# EAGLE library part FT4232H (library RS-ftdi)
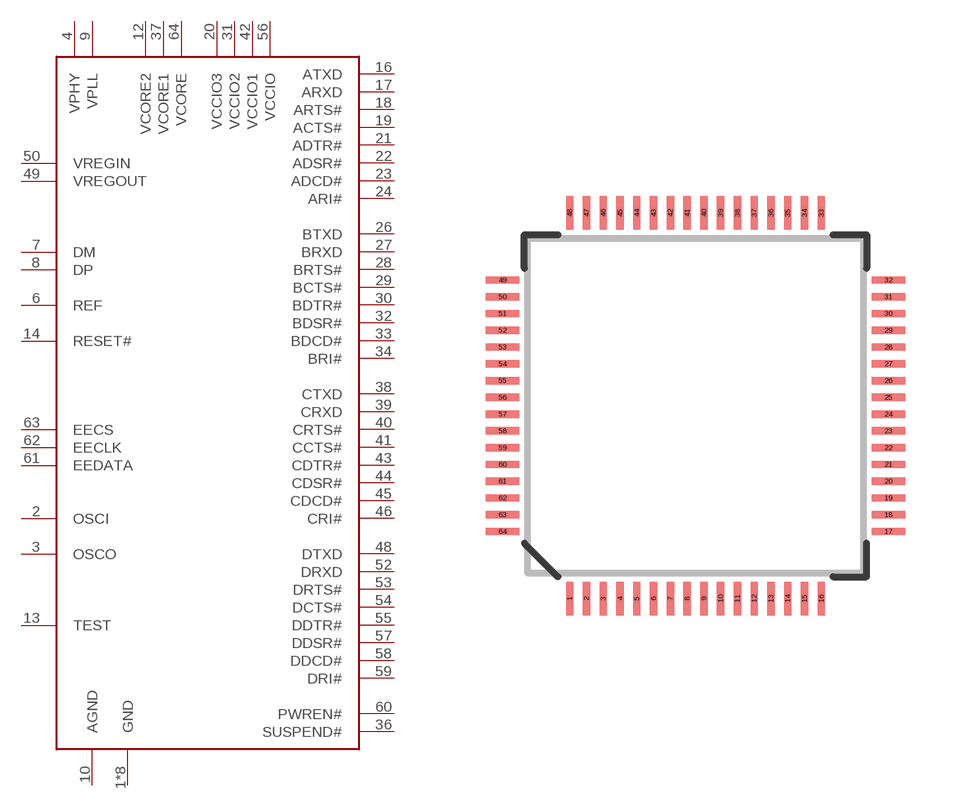
[diagram p0: symbol with the pads of TQFP64; footprint TQFP64]

Designator prefix -

## FT4232H  [TQFP64]
1  GND
2  OSCI
3  OSCO
4  VPHY
5  GND
6  REF
7  DM
8  DP
9  VPLL
10  AGND
11  GND
12  VCORE2
13  TEST
14  RESET#
15  GND
16  ATXD
17  ARXD
18  ARTS#
19  ACTS#
20  VCCIO3
21  ADTR#
22  ADSR#
23  ADCD#
24  ARI#
25  GND
26  BTXD
27  BRXD
28  BRTS#
29  BCTS#
30  BDTR#
31  VCCIO2
32  BDSR#
33  BDCD#
34  BRI#
35  GND
36  SUSPEND#
37  VCORE1
38  CTXD
39  CRXD
40  CRTS#
41  CCTS#
42  VCCIO1
43  CDTR#
44  CDSR#
45  CDCD#
46  CRI#
47  GND
48  DTXD
49  VREGOUT
50  VREGIN
51  GND
52  DRXD
53  DRTS#
54  DCTS#
55  DDTR#
56  VCCIO
57  DDSR#
58  DDCD#
59  DRI#
60  PWREN#
61  EEDATA
62  EECLK
63  EECS
64  VCORE

## Footprint TQFP64 (pad centres in mm)
64-Lead TQFP Plastic Thin Quad Flatpack - 10x10x1mm Body, 2mmFP
smd 0.22 x 1: 1 -3.75,-5.75; 2 -3.25,-5.75; 3 -2.75,-5.75; 4 -2.25,-5.75; 5 -1.75,-5.75; 6 -1.25,-5.75; 7 -0.75,-5.75; 8 -0.25,-5.75; 9 0.25,-5.75; 10 0.75,-5.75; 11 1.25,-5.75; 12 1.75,-5.75; 13 2.25,-5.75; 14 2.75,-5.75; 15 3.25,-5.75; 16 3.75,-5.75; 33 3.75,5.75; 34 3.25,5.75; 35 2.75,5.75; 36 2.25,5.75; 37 1.75,5.75; 38 1.25,5.75; 39 0.75,5.75; 40 0.25,5.75; 41 -0.25,5.75; 42 -0.75,5.75; 43 -1.25,5.75; 44 -1.75,5.75; 45 -2.25,5.75; 46 -2.75,5.75; 47 -3.25,5.75; 48 -3.75,5.75
smd 1 x 0.22: 17 5.75,-3.75; 18 5.75,-3.25; 19 5.75,-2.75; 20 5.75,-2.25; 21 5.75,-1.75; 22 5.75,-1.25; 23 5.75,-0.75; 24 5.75,-0.25; 25 5.75,0.25; 26 5.75,0.75; 27 5.75,1.25; 28 5.75,1.75; 29 5.75,2.25; 30 5.75,2.75; 31 5.75,3.25; 32 5.75,3.75; 49 -5.75,3.75; 50 -5.75,3.25; 51 -5.75,2.75; 52 -5.75,2.25; 53 -5.75,1.75; 54 -5.75,1.25; 55 -5.75,0.75; 56 -5.75,0.25; 57 -5.75,-0.25; 58 -5.75,-0.75; 59 -5.75,-1.25; 60 -5.75,-1.75; 61 -5.75,-2.25; 62 -5.75,-2.75; 63 -5.75,-3.25; 64 -5.75,-3.75